# EAGLE library part SN74HC4040N (library SN74HC4040N)
12- Bit Asynchronous Binary counters Source: Datasheet <http://componentsearchengine.com/Datasheets/1/SN74HC4040N.pdf>
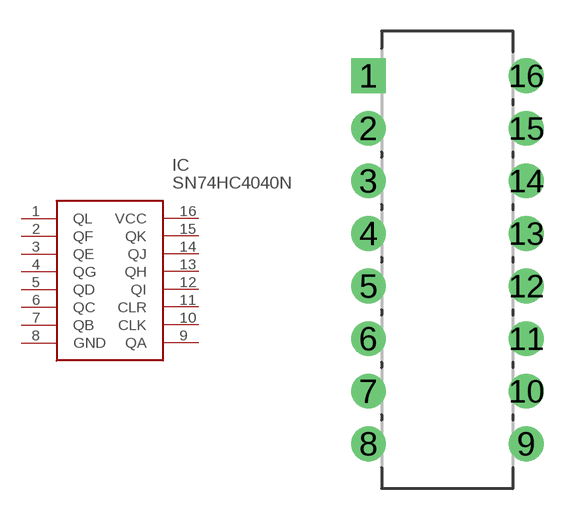
[diagram p0: symbol with the pads of DIP254P762X508-16; footprint DIP254P762X508-16]

Designator prefix IC

## SN74HC4040N (DESCRIPTION: 12- Bit Asynchronous Binary counters; HEIGHT: mm; MANUFACTURER_NAME: Texas Instruments; MANUFACTURER_PART_NUMBER: SN74HC4040N; MOUSER_PART_NUMBER: 595-SN74HC4040N; MOUSER_PRICE-STOCK: https://www.mouser.com/Search/Refine.aspx?Keyword=595-SN74HC4040N; RS_PART_NUMBER: 0443255; RS_PRICE-STOCK: http://uk.rs-online.com/web/p/products/0443255)  [DIP254P762X508-16]
1  QL
2  QF
3  QE
4  QG
5  QD
6  QC
7  QB
8  GND
9  QA
10  CLK
11  CLR
12  QI
13  QH
14  QJ
15  QK
16  VCC

## Footprint DIP254P762X508-16 (pad centres in mm)
DIP254P762X508-16
drill 1.118 pad 1.676 square: 1 -7.62,17.78
drill 1.118 pad 1.676: 2 -7.62,15.24; 3 -7.62,12.7; 4 -7.62,10.16; 5 -7.62,7.62; 6 -7.62,5.08; 7 -7.62,2.54; 8 -7.62,0; 9 0,0; 10 0,2.54; 11 0,5.08; 12 0,7.62; 13 0,10.16; 14 0,12.7; 15 0,15.24; 16 0,17.78